# Altium footprint library TO.PcbLib: 3 footprints
Each footprint in its own frame and in the unit in brackets; x right, y up, seen from the top. Pads: shape width x height; smd on the part's side, far side on the other; paste and mask are expansions set on the pad; w line width, h text height; cw(c..) or ccw(c..) is an arc to the next point about the centre after c.
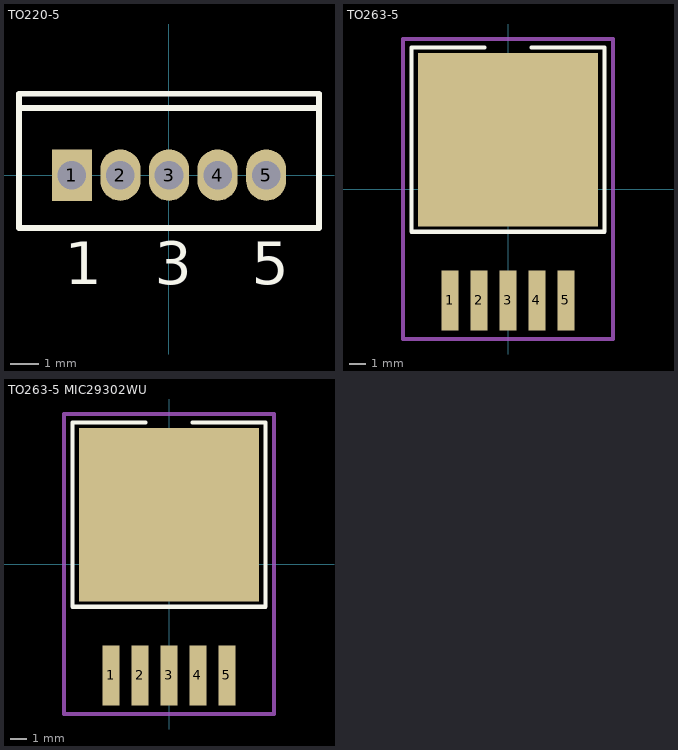
[diagram p0: the footprints below, top view; thin cyan lines are the x and y axes]

## TO220-5 [mm] "TO, Thru-Hole, Vertical, Heatsink Mounted; 5 In-Line Leads; Pitch 1.70 mm"
height 15.1
pads (5):
  rect 1.4x1.8 hole 1: 1(-3.4,0)
  oval 1.4x1.8 hole 1: 2(-1.7,0) 3(0,0) 4(1.7,0) 5(3.4,0)
Top Overlay:
  lines w0.2: -5.25,2.35 5.25,2.35 ; -5.25,-1.85 5.25,-1.85 5.25,2.85 -5.25,2.85 -5.25,-1.85
  text "1" at -3.65,-3.825 h1.5
  text "3" at -0.5,-3.825 h1.5
  text "5" at 2.9,-3.825 h1.5

## TO263-5 [mil] "D2PACK, TO-263 Case, 5 Lead, SMD Power IC"
pads (6):
  rect 40x140 smd: 1(-135,-260) 2(-67.5,-260) 3(0,-260) 4(67.5,-260) 5(135,-260)
  rect 420x405 smd: ""(0,115)
Top Overlay:
  circle w30: c-150,-30 r15
  lines w10: -55,330 -225,330 -225,-100 225,-100 225,330 55,330
Mechanical 15:
  lines w10: -245,-350 245,-350 245,350 -245,350 -245,-350
3D body "D2AK TO-263-5.STEP": height 191.73, standoff 0, extent -200.01,-260.16 199.99,300.08

## TO263-5 MIC29302WU [mil] "IC REG LDO ADJ 3A TO263-5"
pads (6):
  rect 40x140 smd: 1(-135,-260) 2(-67.5,-260) 3(0,-260) 4(67.5,-260) 5(135,-260)
  rect 420x405 smd: ""(0,115)
Top Overlay:
  circle w30: c0,250 r15
  lines w10: -55,330 -225,330 -225,-100 225,-100 225,330 55,330
Mechanical 15:
  lines w10: -245,-350 245,-350 245,350 -245,350 -245,-350
3D body "TO-263-5 MIC29302WU.STEP": height 177.8, standoff -1.33, extent -202.76,-297.08 202.75,302.44